# Altium footprint library DO-221AC.PcbLib: 1 footprints
Each footprint in its own frame and in the unit in brackets; x right, y up, seen from the top. Pads: shape width x height; smd on the part's side, far side on the other; paste and mask are expansions set on the pad; w line width, h text height; cw(c..) or ccw(c..) is an arc to the next point about the centre after c.
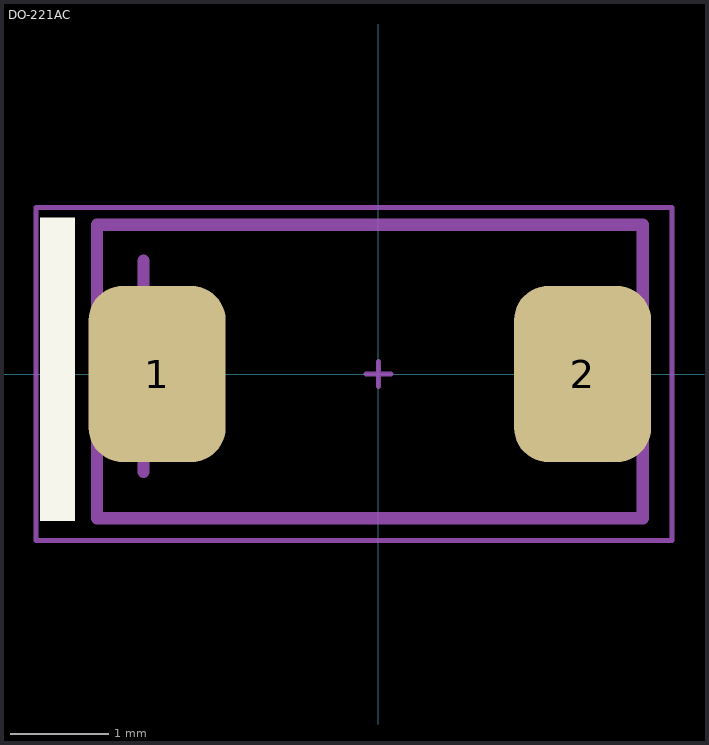
[diagram p0: the footprint, top view; thin cyan lines are the x and y axes]

## DO-221AC [mm] "DO-214A;SMA"
pads (2):
  rrect50% 1.4x1.8 smd mask+0.05: 1(-2.261,0) 2(2.086,0)
Top Overlay:
  region: -3.1,1.6 -3.456,1.6 -3.456,-1.5 -3.1,-1.5
Top Assembly:
  lines w0.127: -2.4,-1 -2.4,1.159 ; -2.875,-1.475 2.7,-1.475 2.7,1.525 -2.875,1.525 -2.875,-1.475
Top Courtyard:
  lines w0.05: -0.127,0 0.127,0 ; 0,-0.127 0,0.127 ; -3.5,-1.7 3,-1.7 3,1.7 -3.5,1.7 -3.5,-1.7
3D body "User Library-DO-221AC.STEP": height 1.2, standoff 0, extent -2.9,-1.5 2.7,1.45